# Altium footprint library TLP290-4.PcbLib: 1 footprints
Each footprint in its own frame and in the unit in brackets; x right, y up, seen from the top. Pads: shape width x height; smd on the part's side, far side on the other; paste and mask are expansions set on the pad; w line width, h text height; cw(c..) or ccw(c..) is an arc to the next point about the centre after c.
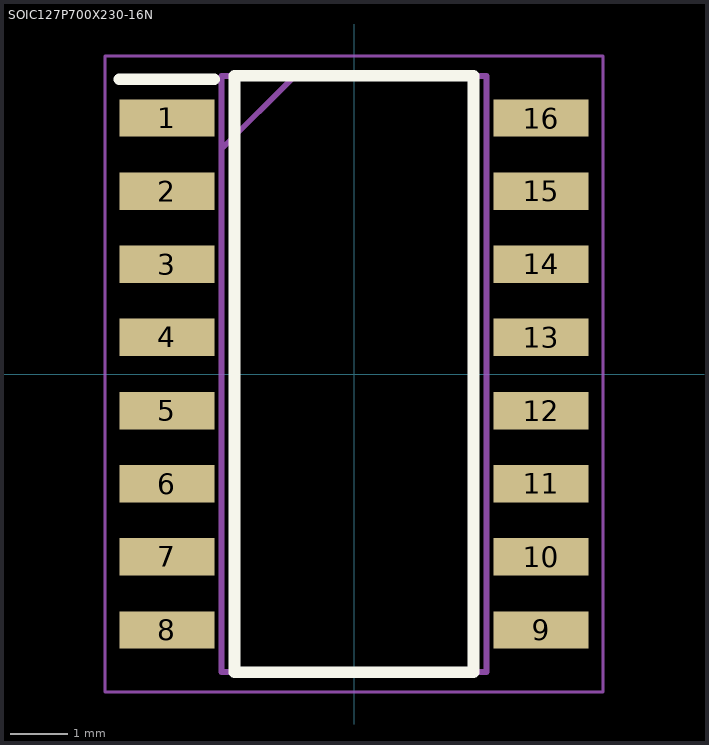
[diagram p0: the footprint, top view; thin cyan lines are the x and y axes]

## SOIC127P700X230-16N [mm]
pads (16):
  rect 1.65x0.65 smd: 1(-3.25,4.445) 2(-3.25,3.175) 3(-3.25,1.905) 4(-3.25,0.635) 5(-3.25,-0.635) 6(-3.25,-1.905) 7(-3.25,-3.175) 8(-3.25,-4.445) 9(3.25,-4.445) 10(3.25,-3.175) 11(3.25,-1.905) 12(3.25,-0.635) 13(3.25,0.635) 14(3.25,1.905) 15(3.25,3.175) 16(3.25,4.445)
Top Overlay:
  lines w0.2: -4.075,5.12 -2.425,5.12 ; -2.075,-5.175 -2.075,5.175 2.075,5.175 2.075,-5.175 -2.075,-5.175
Mechanical 13:
  lines w0.1: -2.3,3.905 -1.03,5.175 ; -2.3,-5.175 -2.3,5.175 2.3,5.175 2.3,-5.175 -2.3,-5.175
Mechanical 15:
  lines w0.05: -4.325,-5.525 -4.325,5.525 4.325,5.525 4.325,-5.525 -4.325,-5.525
3D body "TLP290-4_GB-TP,E_T.stp": height 2.3, standoff 0, extent -3.5,-5.175 3.5,5.175